# Altium integrated library Altium_WE-XTAL (rev25b).IntLib: 324 symbols (part 6 of 6)
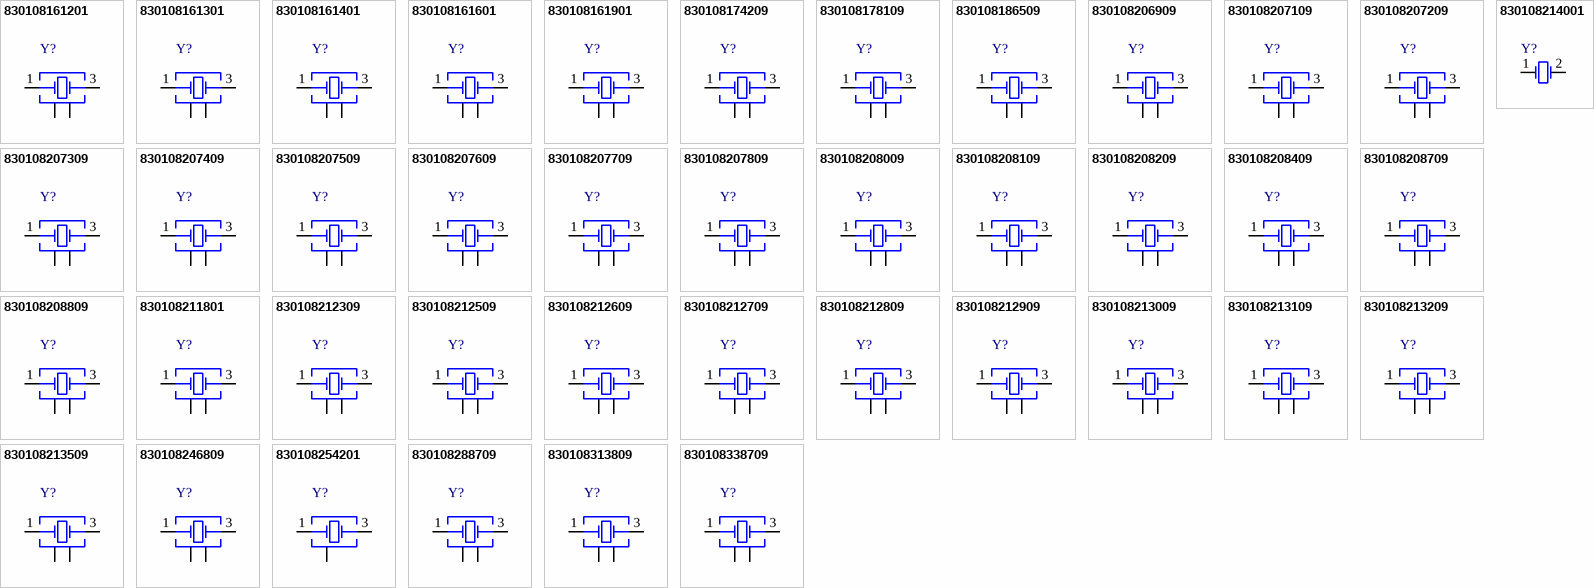
[diagram p13: symbols 830108161201 to 830108338709]

## 830108207609
designator Y?, comment 32MHz  (value not drawn)
WE-XTAL Quartz Crystal, CFPX-180, 32MHz, +/-10ppm; Manufacturer Part Number: 830108207609; Manufacturer: Wurth Elektronik; Frequency Stability: 20ppm; Load Capacitance: 8pF; Category: Crystals; Match Code: WE-XTAL; ComponentLink1Description: Website Link; ComponentLink1URL: https://www.we-online.com/redexpert/article/830108207609?ad; ComponentLink2Description: Datasheet Link; ComponentLink2URL: https://www.we-online.com/redexpert/spec/830108207609?ad; Mount: Surface Mount; Min Operating Temperature: -40°C; Max Operating Temperature: 85°C; Packaging: Tape and Reel; Case/Size Code: CFPX-180; Length: 3.2mm; Width: 2.5mm; Height: 0.8mm; Application: Processor, Bluetooth; Frequency: 32MHz; Frequency Tolerance: +/-10ppm
footprint WE-XTAL_CFPX-180
pins: 1 Crystal, 2 GND&Lid, 3 Crystal, 4 GND&Lid

## 830108207709
designator Y?, comment 40MHz  (value not drawn)
WE-XTAL Quartz Crystal, CFPX-180, 40MHz, +/-10ppm; Manufacturer Part Number: 830108207709; Manufacturer: Wurth Elektronik; Frequency Stability: 20ppm; Load Capacitance: 8pF; Category: Crystals; Match Code: WE-XTAL; ComponentLink1Description: Website Link; ComponentLink1URL: https://www.we-online.com/redexpert/article/830108207709?ad; ComponentLink2Description: Datasheet Link; ComponentLink2URL: https://www.we-online.com/redexpert/spec/830108207709?ad; Mount: Surface Mount; Min Operating Temperature: -40°C; Max Operating Temperature: 85°C; Packaging: Tape and Reel; Case/Size Code: CFPX-180; Length: 3.2mm; Width: 2.5mm; Height: 0.8mm; Application: Processor, USB, 3G/4G/5G, CAN, Wi-Fi; Frequency: 40MHz; Frequency Tolerance: +/-10ppm
footprint WE-XTAL_CFPX-180
pins: 1 Crystal, 2 GND&Lid, 3 Crystal, 4 GND&Lid

## 830108207809
designator Y?, comment 50MHz  (value not drawn)
WE-XTAL Quartz Crystal, CFPX-180, 50MHz, +/-10ppm; Manufacturer Part Number: 830108207809; Manufacturer: Wurth Elektronik; Frequency Stability: 20ppm; Load Capacitance: 8pF; Category: Crystals; Match Code: WE-XTAL; ComponentLink1Description: Website Link; ComponentLink1URL: https://www.we-online.com/redexpert/article/830108207809?ad; ComponentLink2Description: Datasheet Link; ComponentLink2URL: https://www.we-online.com/redexpert/spec/830108207809?ad; Mount: Surface Mount; Min Operating Temperature: -40°C; Max Operating Temperature: 85°C; Packaging: Tape and Reel; Case/Size Code: CFPX-180; Length: 3.2mm; Width: 2.5mm; Height: 0.8mm; Application: Processor, Ethernet, PCI Express, PHY; Frequency: 50MHz; Frequency Tolerance: +/-10ppm
footprint WE-XTAL_CFPX-180
pins: 1 Crystal, 2 GND&Lid, 3 Crystal, 4 GND&Lid

## 830108208009
designator Y?, comment 19.2MHz  (value not drawn)
WE-XTAL Quartz Crystal, CFPX-218, 19.2MHz, +/-10ppm; Manufacturer Part Number: 830108208009; Manufacturer: Wurth Elektronik; Frequency Stability: 10ppm; Load Capacitance: 10pF; Category: Crystals; Match Code: WE-XTAL; ComponentLink1Description: Website Link; ComponentLink1URL: https://www.we-online.com/redexpert/article/830108208009?ad; ComponentLink2Description: Datasheet Link; ComponentLink2URL: https://www.we-online.com/redexpert/spec/830108208009?ad; Mount: Surface Mount; Min Operating Temperature: -20°C; Max Operating Temperature: 70°C; Packaging: Tape and Reel; Case/Size Code: CFPX-218; Length: 2.5mm; Width: 2mm; Height: 0.65mm; Application: UART, 3G/4G/5G, Small Cell; Frequency: 19.2MHz; Frequency Tolerance: +/-10ppm
footprint WE-XTAL_CFPX-218
pins: 1 Crystal, 2 GND, 3 Crystal, 4 GND

## 830108208109
designator Y?, comment 20MHz  (value not drawn)
WE-XTAL Quartz Crystal, CFPX-218, 20MHz, +/-10ppm; Manufacturer Part Number: 830108208109; Manufacturer: Wurth Elektronik; Frequency Stability: 10ppm; Load Capacitance: 10pF; Category: Crystals; Match Code: WE-XTAL; ComponentLink1Description: Website Link; ComponentLink1URL: https://www.we-online.com/redexpert/article/830108208109?ad; ComponentLink2Description: Datasheet Link; ComponentLink2URL: https://www.we-online.com/redexpert/spec/830108208109?ad; Mount: Surface Mount; Min Operating Temperature: -20°C; Max Operating Temperature: 70°C; Packaging: Tape and Reel; Case/Size Code: CFPX-218; Length: 2.5mm; Width: 2mm; Height: 0.65mm; Application: Processor, CAN, USB, Ethernet, Wi-Fi; Frequency: 20MHz; Frequency Tolerance: +/-10ppm
footprint WE-XTAL_CFPX-218
pins: 1 Crystal, 2 GND, 3 Crystal, 4 GND

## 830108208209
designator Y?, comment 24MHz  (value not drawn)
WE-XTAL Quartz Crystal, CFPX-218, 24MHz, +/-10ppm; Manufacturer Part Number: 830108208209; Manufacturer: Wurth Elektronik; Frequency Stability: 10ppm; Load Capacitance: 10pF; Category: Crystals; Match Code: WE-XTAL; ComponentLink1Description: Website Link; ComponentLink1URL: https://www.we-online.com/redexpert/article/830108208209?ad; ComponentLink2Description: Datasheet Link; ComponentLink2URL: https://www.we-online.com/redexpert/spec/830108208209?ad; Mount: Surface Mount; Min Operating Temperature: -20°C; Max Operating Temperature: 70°C; Packaging: Tape and Reel; Case/Size Code: CFPX-218; Length: 2.5mm; Width: 2mm; Height: 0.65mm; Application: Processor, USB, Bluetooth; Frequency: 24MHz; Frequency Tolerance: +/-10ppm
footprint WE-XTAL_CFPX-218
pins: 1 Crystal, 2 GND, 3 Crystal, 4 GND

## 830108208409
designator Y?, comment 27MHz  (value not drawn)
WE-XTAL Quartz Crystal, CFPX-218, 27MHz, +/-10ppm; Manufacturer Part Number: 830108208409; Manufacturer: Wurth Elektronik; Frequency Stability: 10ppm; Load Capacitance: 10pF; Category: Crystals; Match Code: WE-XTAL; ComponentLink1Description: Website Link; ComponentLink1URL: https://www.we-online.com/redexpert/article/830108208409?ad; ComponentLink2Description: Datasheet Link; ComponentLink2URL: https://www.we-online.com/redexpert/spec/830108208409?ad; Mount: Surface Mount; Min Operating Temperature: -20°C; Max Operating Temperature: 70°C; Packaging: Tape and Reel; Case/Size Code: CFPX-218; Length: 2.5mm; Width: 2mm; Height: 0.65mm; Application: Processor; Frequency: 27MHz; Frequency Tolerance: +/-10ppm
footprint WE-XTAL_CFPX-218
pins: 1 Crystal, 2 GND, 3 Crystal, 4 GND

## 830108208709
designator Y?, comment 40MHz  (value not drawn)
WE-XTAL Quartz Crystal, CFPX-218, 40MHz, +/-10ppm; Manufacturer Part Number: 830108208709; Manufacturer: Wurth Elektronik; Frequency Stability: 10ppm; Load Capacitance: 10pF; Category: Crystals; Match Code: WE-XTAL; ComponentLink1Description: Website Link; ComponentLink1URL: https://www.we-online.com/redexpert/article/830108208709?ad; ComponentLink2Description: Datasheet Link; ComponentLink2URL: https://www.we-online.com/redexpert/spec/830108208709?ad; Mount: Surface Mount; Min Operating Temperature: -20°C; Max Operating Temperature: 70°C; Packaging: Tape and Reel; Case/Size Code: CFPX-218; Length: 2.5mm; Width: 2mm; Height: 0.65mm; Application: Processor, USB, 3G/4G/5G, CAN, Wi-Fi; Frequency: 40MHz; Frequency Tolerance: +/-10ppm
footprint WE-XTAL_CFPX-218
pins: 1 Crystal, 2 GND, 3 Crystal, 4 GND

## 830108208809
designator Y?, comment 50MHz  (value not drawn)
WE-XTAL Quartz Crystal, CFPX-218, 50MHz, +/-10ppm; Manufacturer Part Number: 830108208809; Manufacturer: Wurth Elektronik; Frequency Stability: 10ppm; Load Capacitance: 10pF; Category: Crystals; Match Code: WE-XTAL; ComponentLink1Description: Website Link; ComponentLink1URL: https://www.we-online.com/redexpert/article/830108208809?ad; ComponentLink2Description: Datasheet Link; ComponentLink2URL: https://www.we-online.com/redexpert/spec/830108208809?ad; Mount: Surface Mount; Min Operating Temperature: -20°C; Max Operating Temperature: 70°C; Packaging: Tape and Reel; Case/Size Code: CFPX-218; Length: 2.5mm; Width: 2mm; Height: 0.65mm; Application: Processor, Ethernet, PCI Express, PHY; Frequency: 50MHz; Frequency Tolerance: +/-10ppm
footprint WE-XTAL_CFPX-218
pins: 1 Crystal, 2 GND, 3 Crystal, 4 GND

## 830108211801
designator Y?, comment 32.768kHz  (value not drawn)
WE-XTAL Watch Crystal, IQXC-146, 32.768kHz, +/-20ppm; Manufacturer Part Number: 830108211801; Manufacturer: Wurth Elektronik; Load Capacitance: 7pF; Category: Crystals; Match Code: WE-XTAL; ComponentLink1Description: Website Link; ComponentLink1URL: https://www.we-online.com/redexpert/article/830108211801?ad; ComponentLink2Description: Datasheet Link; ComponentLink2URL: https://www.we-online.com/redexpert/spec/830108211801?ad; Mount: Surface Mount; Min Operating Temperature: -40°C; Max Operating Temperature: 85°C; Packaging: Tape and Reel; Case/Size Code: IQXC-146; Length: 1.2mm; Width: 1mm; Height: 0.5mm; Application: Real Time Clock; Frequency: 32.768kHz; Frequency Tolerance: +/-20ppm
footprint WE-XTAL_IQXC-146
pins: 1 Crystal, 2 GND, 3 Crystal, 4 GND

## 830108212309
designator Y?, comment 24MHz  (value not drawn)
WE-XTAL Quartz Crystal, IQXC-42, 24MHz, +/-10ppm; Manufacturer Part Number: 830108212309; Manufacturer: Wurth Elektronik; Frequency Stability: 15ppm; Load Capacitance: 8pF; Category: Crystals; Match Code: WE-XTAL; ComponentLink1Description: Website Link; ComponentLink1URL: https://www.we-online.com/redexpert/article/830108212309?ad; ComponentLink2Description: Datasheet Link; ComponentLink2URL: https://www.we-online.com/redexpert/spec/830108212309?ad; Mount: Surface Mount; Min Operating Temperature: -40°C; Max Operating Temperature: 85°C; Packaging: Tape and Reel; Case/Size Code: IQXC-42; Length: 2mm; Width: 1.6mm; Height: 0.5mm; Application: Processor, USB, Bluetooth; Frequency: 24MHz; Frequency Tolerance: +/-10ppm
footprint WE-XTAL_IQXC-42
pins: 1 Crystal, 2 GND & Lid, 3 Crystal, 4 GND & Lid

## 830108212509
designator Y?, comment 25MHz  (value not drawn)
WE-XTAL Quartz Crystal, IQXC-42, 25MHz, +/-10ppm; Manufacturer Part Number: 830108212509; Manufacturer: Wurth Elektronik; Frequency Stability: 15ppm; Load Capacitance: 8pF; Category: Crystals; Match Code: WE-XTAL; ComponentLink1Description: Website Link; ComponentLink1URL: https://www.we-online.com/redexpert/article/830108212509?ad; ComponentLink2Description: Datasheet Link; ComponentLink2URL: https://www.we-online.com/redexpert/spec/830108212509?ad; Mount: Surface Mount; Min Operating Temperature: -40°C; Max Operating Temperature: 85°C; Packaging: Tape and Reel; Case/Size Code: IQXC-42; Length: 2mm; Width: 1.6mm; Height: 0.5mm; Application: Processor, USB, 3G/4G/5G, Ethernet, Small Cell, PHY, PCI Express; Frequency: 25MHz; Frequency Tolerance: +/-10ppm
footprint WE-XTAL_IQXC-42
pins: 1 Crystal, 2 GND & Lid, 3 Crystal, 4 GND & Lid

## 830108212609
designator Y?, comment 26MHz  (value not drawn)
WE-XTAL Quartz Crystal, IQXC-42, 26MHz, +/-10ppm; Manufacturer Part Number: 830108212609; Manufacturer: Wurth Elektronik; Frequency Stability: 15ppm; Load Capacitance: 8pF; Category: Crystals; Match Code: WE-XTAL; ComponentLink1Description: Website Link; ComponentLink1URL: https://www.we-online.com/redexpert/article/830108212609?ad; ComponentLink2Description: Datasheet Link; ComponentLink2URL: https://www.we-online.com/redexpert/spec/830108212609?ad; Mount: Surface Mount; Min Operating Temperature: -40°C; Max Operating Temperature: 85°C; Packaging: Tape and Reel; Case/Size Code: IQXC-42; Length: 2mm; Width: 1.6mm; Height: 0.5mm; Application: CAN, Bluetooth, GPS, Small Cell; Frequency: 26MHz; Frequency Tolerance: +/-10ppm
footprint WE-XTAL_IQXC-42
pins: 1 Crystal, 2 GND & Lid, 3 Crystal, 4 GND & Lid

## 830108212709
designator Y?, comment 27.12MHz  (value not drawn)
WE-XTAL Quartz Crystal, IQXC-42, 27.12MHz, +/-10ppm; Manufacturer Part Number: 830108212709; Manufacturer: Wurth Elektronik; Frequency Stability: 15ppm; Load Capacitance: 8pF; Category: Crystals; Match Code: WE-XTAL; ComponentLink1Description: Website Link; ComponentLink1URL: https://www.we-online.com/redexpert/article/830108212709?ad; ComponentLink2Description: Datasheet Link; ComponentLink2URL: https://www.we-online.com/redexpert/spec/830108212709?ad; Mount: Surface Mount; Min Operating Temperature: -40°C; Max Operating Temperature: 85°C; Packaging: Tape and Reel; Case/Size Code: IQXC-42; Length: 2mm; Width: 1.6mm; Height: 0.5mm; Application: NFC, RFID; Frequency: 27.12MHz; Frequency Tolerance: +/-10ppm
footprint WE-XTAL_IQXC-42
pins: 1 Crystal, 2 GND & Lid, 3 Crystal, 4 GND & Lid

## 830108212809
designator Y?, comment 30MHz  (value not drawn)
WE-XTAL Quartz Crystal, IQXC-42, 30MHz, +/-10ppm; Manufacturer Part Number: 830108212809; Manufacturer: Wurth Elektronik; Frequency Stability: 15ppm; Load Capacitance: 8pF; Category: Crystals; Match Code: WE-XTAL; ComponentLink1Description: Website Link; ComponentLink1URL: https://www.we-online.com/redexpert/article/830108212809?ad; ComponentLink2Description: Datasheet Link; ComponentLink2URL: https://www.we-online.com/redexpert/spec/830108212809?ad; Mount: Surface Mount; Min Operating Temperature: -40°C; Max Operating Temperature: 85°C; Packaging: Tape and Reel; Case/Size Code: IQXC-42; Length: 2mm; Width: 1.6mm; Height: 0.5mm; Application: Processor, USB; Frequency: 30MHz; Frequency Tolerance: +/-10ppm
footprint WE-XTAL_IQXC-42
pins: 1 Crystal, 2 GND & Lid, 3 Crystal, 4 GND & Lid

## 830108212909
designator Y?, comment 32MHz  (value not drawn)
WE-XTAL Quartz Crystal, IQXC-42, 32MHz, +/-10ppm; Manufacturer Part Number: 830108212909; Manufacturer: Wurth Elektronik; Frequency Stability: 15ppm; Load Capacitance: 8pF; Category: Crystals; Match Code: WE-XTAL; ComponentLink1Description: Website Link; ComponentLink1URL: https://www.we-online.com/redexpert/article/830108212909?ad; ComponentLink2Description: Datasheet Link; ComponentLink2URL: https://www.we-online.com/redexpert/spec/830108212909?ad; Mount: Surface Mount; Min Operating Temperature: -40°C; Max Operating Temperature: 85°C; Packaging: Tape and Reel; Case/Size Code: IQXC-42; Length: 2mm; Width: 1.6mm; Height: 0.5mm; Application: Processor, Bluetooth; Frequency: 32MHz; Frequency Tolerance: +/-10ppm
footprint WE-XTAL_IQXC-42
pins: 1 Crystal, 2 GND & Lid, 3 Crystal, 4 GND & Lid

## 830108213009
designator Y?, comment 37.4MHz  (value not drawn)
WE-XTAL Quartz Crystal, IQXC-42, 37.4MHz, +/-10ppm; Manufacturer Part Number: 830108213009; Manufacturer: Wurth Elektronik; Frequency Stability: 15ppm; Load Capacitance: 8pF; Category: Crystals; Match Code: WE-XTAL; ComponentLink1Description: Website Link; ComponentLink1URL: https://www.we-online.com/redexpert/article/830108213009?ad; ComponentLink2Description: Datasheet Link; ComponentLink2URL: https://www.we-online.com/redexpert/spec/830108213009?ad; Mount: Surface Mount; Min Operating Temperature: -40°C; Max Operating Temperature: 85°C; Packaging: Tape and Reel; Case/Size Code: IQXC-42; Length: 2mm; Width: 1.6mm; Height: 0.5mm; Application: Wi-Fi; Frequency: 37.4MHz; Frequency Tolerance: +/-10ppm
footprint WE-XTAL_IQXC-42
pins: 1 Crystal, 2 GND & Lid, 3 Crystal, 4 GND & Lid

## 830108213109
designator Y?, comment 38.4MHz  (value not drawn)
WE-XTAL Quartz Crystal, IQXC-42, 38.4MHz, +/-10ppm; Manufacturer Part Number: 830108213109; Manufacturer: Wurth Elektronik; Frequency Stability: 15ppm; Load Capacitance: 8pF; Category: Crystals; Match Code: WE-XTAL; ComponentLink1Description: Website Link; ComponentLink1URL: https://www.we-online.com/redexpert/article/830108213109?ad; ComponentLink2Description: Datasheet Link; ComponentLink2URL: https://www.we-online.com/redexpert/spec/830108213109?ad; Mount: Surface Mount; Min Operating Temperature: -40°C; Max Operating Temperature: 85°C; Packaging: Tape and Reel; Case/Size Code: IQXC-42; Length: 2mm; Width: 1.6mm; Height: 0.5mm; Application: 3G/4G/5G, Audio, Small Cell, UART; Frequency: 38.4MHz; Frequency Tolerance: +/-10ppm
footprint WE-XTAL_IQXC-42
pins: 1 Crystal, 2 GND & Lid, 3 Crystal, 4 GND & Lid

## 830108213209
designator Y?, comment 40MHz  (value not drawn)
WE-XTAL Quartz Crystal, IQXC-42, 40MHz, +/-10ppm; Manufacturer Part Number: 830108213209; Manufacturer: Wurth Elektronik; Frequency Stability: 15ppm; Load Capacitance: 8pF; Category: Crystals; Match Code: WE-XTAL; ComponentLink1Description: Website Link; ComponentLink1URL: https://www.we-online.com/redexpert/article/830108213209?ad; ComponentLink2Description: Datasheet Link; ComponentLink2URL: https://www.we-online.com/redexpert/spec/830108213209?ad; Mount: Surface Mount; Min Operating Temperature: -40°C; Max Operating Temperature: 85°C; Packaging: Tape and Reel; Case/Size Code: IQXC-42; Length: 2mm; Width: 1.6mm; Height: 0.5mm; Application: Processor, USB, 3G/4G/5G, CAN, Wi-Fi; Frequency: 40MHz; Frequency Tolerance: +/-10ppm
footprint WE-XTAL_IQXC-42
pins: 1 Crystal, 2 GND & Lid, 3 Crystal, 4 GND & Lid

## 830108213509
designator Y?, comment 48MHz  (value not drawn)
WE-XTAL Quartz Crystal, IQXC-42, 48MHz, +/-10ppm; Manufacturer Part Number: 830108213509; Manufacturer: Wurth Elektronik; Frequency Stability: 15ppm; Load Capacitance: 8pF; Category: Crystals; Match Code: WE-XTAL; ComponentLink1Description: Website Link; ComponentLink1URL: https://www.we-online.com/redexpert/article/830108213509?ad; ComponentLink2Description: Datasheet Link; ComponentLink2URL: https://www.we-online.com/redexpert/spec/830108213509?ad; Mount: Surface Mount; Min Operating Temperature: -40°C; Max Operating Temperature: 85°C; Packaging: Tape and Reel; Case/Size Code: IQXC-42; Length: 2mm; Width: 1.6mm; Height: 0.5mm; Application: Processor, USB, Wi-Fi; Frequency: 48MHz; Frequency Tolerance: +/-10ppm
footprint WE-XTAL_IQXC-42
pins: 1 Crystal, 2 GND & Lid, 3 Crystal, 4 GND & Lid

## 830108214001
designator Y?, comment 32.768kHz  (value not drawn)
WE-XTAL Watch Crystal, IQXC-90, 32.768kHz, +/-20ppm; Manufacturer Part Number: 830108214001; Manufacturer: Wurth Elektronik; Load Capacitance: 4pF; Category: Crystals; Match Code: WE-XTAL; ComponentLink1Description: Website Link; ComponentLink1URL: https://www.we-online.com/redexpert/article/830108214001?ad; ComponentLink2Description: Datasheet Link; ComponentLink2URL: https://www.we-online.com/redexpert/spec/830108214001?ad; Mount: Surface Mount; Min Operating Temperature: -40°C; Max Operating Temperature: 85°C; Packaging: Tape and Reel; Case/Size Code: IQXC-90; Length: 1.6mm; Width: 1mm; Height: 0.5mm; Application: Real Time Clock; Frequency: 32.768kHz; Frequency Tolerance: +/-20ppm
footprint WE-XTAL_IQXC-90
pins: 1 OSC1, 2 OSC2

## 830108246809
designator Y?, comment 38.4MHz  (value not drawn)
WE-XTAL Quartz Crystal, IQXC-42, 38.4MHz, +/-10ppm; Manufacturer Part Number: 830108246809; Manufacturer: Wurth Elektronik; Frequency Stability: 15ppm; Load Capacitance: 10pF; Category: Crystals; Match Code: WE-XTAL; ComponentLink1Description: Website Link; ComponentLink1URL: https://www.we-online.com/redexpert/article/830108246809?ad; ComponentLink2Description: Datasheet Link; ComponentLink2URL: https://www.we-online.com/redexpert/spec/830108246809?ad; Mount: Surface Mount; Min Operating Temperature: -40°C; Max Operating Temperature: 85°C; Packaging: Tape and Reel; Case/Size Code: IQXC-42; Length: 2mm; Width: 1.6mm; Height: 0.5mm; Application: 3G/4G/5G, Audio, Small Cell, UART; Frequency: 38.4MHz; Frequency Tolerance: +/-10ppm
footprint WE-XTAL_IQXC-42
pins: 1 Crystal, 2 GND & Lid, 3 Crystal, 4 GND & Lid

## 830108254201
designator Y?, comment 32MHz  (value not drawn)
WE-XTAL Quartz Crystal, IQXC-240, 32MHz, +/-7ppm; Manufacturer Part Number: 830108254201; Manufacturer: Wurth Elektronik; Frequency Stability: 15ppm; Load Capacitance: 5pF; Category: Crystals; Match Code: WE-XTAL; ComponentLink1Description: Website Link; ComponentLink1URL: https://www.we-online.com/redexpert/article/830108254201?ad; ComponentLink2Description: Datasheet Link; ComponentLink2URL: https://www.we-online.com/redexpert/spec/830108254201?ad; Mount: Surface Mount; Min Operating Temperature: -30°C; Max Operating Temperature: 85°C; Packaging: Tape and Reel; Case/Size Code: IQXC-240; Length: 1.2mm; Width: 1mm; Height: 0.33mm; Application: Processor, Bluetooth; Frequency: 32MHz; Frequency Tolerance: +/-7ppm
footprint WE-XTAL_IQXC-240
pins: 1 Crystal, 2 GND, 3 Crystal

## 830108288709
designator Y?, comment 16MHz  (value not drawn)
WE-XTAL Quartz Crystal, IQXC-42, 16MHz, +/-10ppm; Manufacturer Part Number: 830108288709; Manufacturer: Wurth Elektronik; Frequency Stability: 30ppm; Load Capacitance: 10pF; Category: Crystals; Match Code: WE-XTAL; ComponentLink1Description: Website Link; ComponentLink1URL: https://www.we-online.com/redexpert/article/830108288709?ad; ComponentLink2Description: Datasheet Link; ComponentLink2URL: https://www.we-online.com/redexpert/spec/830108288709?ad; Mount: Surface Mount; Min Operating Temperature: -40°C; Max Operating Temperature: 105°C; Packaging: Tape and Reel; Case/Size Code: IQXC-42; Length: 2mm; Width: 1.6mm; Height: 0.5mm; Application: Processor, CAN, Bluetooth; Frequency: 16MHz; Frequency Tolerance: +/-10ppm
footprint WE-XTAL_IQXC-42
pins: 1 Crystal, 2 GND & Lid, 3 Crystal, 4 GND & Lid

## 830108313809
designator Y?, comment 8MHz  (value not drawn)
WE-XTAL Quartz Crystal, CFPX-180, 8MHz, +/-30ppm; Manufacturer Part Number: 830108313809; Manufacturer: Wurth Elektronik; Frequency Stability: 50ppm; Load Capacitance: 12pF; Category: Crystals; Match Code: WE-XTAL; ComponentLink1Description: Website Link; ComponentLink1URL: https://www.we-online.com/redexpert/article/830108313809?ad; ComponentLink2Description: Datasheet Link; ComponentLink2URL: https://www.we-online.com/redexpert/spec/830108313809?ad; Mount: Surface Mount; Min Operating Temperature: -40°C; Max Operating Temperature: 85°C; Packaging: Tape and Reel; Case/Size Code: CFPX-180; Length: 3.2mm; Width: 2.5mm; Height: 0.8mm; Application: Processor, UART; Frequency: 8MHz; Frequency Tolerance: +/-30ppm
footprint WE-XTAL_CFPX-180
pins: 1 Crystal, 2 GND&Lid, 3 Crystal, 4 GND&Lid

## 830108338709
designator Y?, comment 10MHz  (value not drawn)
WE-XTAL Quartz Crystal, CFPX-180, 10MHz, +/-20ppm; Manufacturer Part Number: 830108338709; Manufacturer: Wurth Elektronik; Frequency Stability: 50ppm; Load Capacitance: 12pF; Category: Crystals; Match Code: WE-XTAL; ComponentLink1Description: Website Link; ComponentLink1URL: https://www.we-online.com/redexpert/article/830108338709?ad; ComponentLink2Description: Datasheet Link; ComponentLink2URL: https://www.we-online.com/redexpert/spec/830108338709?ad; Mount: Surface Mount; Min Operating Temperature: -40°C; Max Operating Temperature: 105°C; Packaging: Tape and Reel; Case/Size Code: CFPX-180; Length: 3.2mm; Width: 2.5mm; Height: 0.8mm; Application: Processor, Ethernet; Frequency: 10MHz; Frequency Tolerance: +/-20ppm
footprint WE-XTAL_CFPX-180
pins: 1 Crystal, 2 GND&Lid, 3 Crystal, 4 GND&Lid

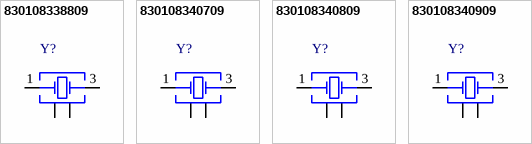
[diagram p8: symbols 830108338809 to 830108340909]

## 830108338809
designator Y?, comment 12MHz  (value not drawn)
WE-XTAL Quartz Crystal, CFPX-180, 12MHz, +/-20ppm; Manufacturer Part Number: 830108338809; Manufacturer: Wurth Elektronik; Frequency Stability: 30ppm; Load Capacitance: 12pF; Category: Crystals; Match Code: WE-XTAL; ComponentLink1Description: Website Link; ComponentLink1URL: https://www.we-online.com/redexpert/article/830108338809?ad; ComponentLink2Description: Datasheet Link; ComponentLink2URL: https://www.we-online.com/redexpert/spec/830108338809?ad; Mount: Surface Mount; Min Operating Temperature: -40°C; Max Operating Temperature: 105°C; Packaging: Tape and Reel; Case/Size Code: CFPX-180; Length: 3.2mm; Width: 2.5mm; Height: 0.8mm; Application: Processor, USB, CAN; Frequency: 12MHz; Frequency Tolerance: +/-20ppm
footprint WE-XTAL_CFPX-180
pins: 1 Crystal, 2 GND&Lid, 3 Crystal, 4 GND&Lid

## 830108340709
designator Y?, comment 24MHz  (value not drawn)
WE-XTAL Quartz Crystal, CFPX-180, 24MHz, +/-20ppm; Manufacturer Part Number: 830108340709; Manufacturer: Wurth Elektronik; Frequency Stability: 50ppm; Load Capacitance: 12pF; Category: Crystals; Match Code: WE-XTAL; ComponentLink1Description: Website Link; ComponentLink1URL: https://www.we-online.com/redexpert/article/830108340709?ad; ComponentLink2Description: Datasheet Link; ComponentLink2URL: https://www.we-online.com/redexpert/spec/830108340709?ad; Mount: Surface Mount; Min Operating Temperature: -40°C; Max Operating Temperature: 105°C; Packaging: Tape and Reel; Case/Size Code: CFPX-180; Length: 3.2mm; Width: 2.5mm; Height: 0.8mm; Application: Processor, USB, Bluetooth; Frequency: 24MHz; Frequency Tolerance: +/-20ppm
footprint WE-XTAL_CFPX-180
pins: 1 Crystal, 2 GND&Lid, 3 Crystal, 4 GND&Lid

## 830108340809
designator Y?, comment 25MHz  (value not drawn)
WE-XTAL Quartz Crystal, CFPX-180, 25MHz, +/-20ppm; Manufacturer Part Number: 830108340809; Manufacturer: Wurth Elektronik; Frequency Stability: 30ppm; Load Capacitance: 12pF; Category: Crystals; Match Code: WE-XTAL; ComponentLink1Description: Website Link; ComponentLink1URL: https://www.we-online.com/redexpert/article/830108340809?ad; ComponentLink2Description: Datasheet Link; ComponentLink2URL: https://www.we-online.com/redexpert/spec/830108340809?ad; Mount: Surface Mount; Min Operating Temperature: -40°C; Max Operating Temperature: 105°C; Packaging: Tape and Reel; Case/Size Code: CFPX-180; Length: 3.2mm; Width: 2.5mm; Height: 0.8mm; Application: Processor, USB, 3G/4G/5G, Ethernet, Small Cell, PHY, PCI Express; Frequency: 25MHz; Frequency Tolerance: +/-20ppm
footprint WE-XTAL_CFPX-180
pins: 1 Crystal, 2 GND&Lid, 3 Crystal, 4 GND&Lid

## 830108340909
designator Y?, comment 26MHz  (value not drawn)
WE-XTAL Quartz Crystal, CFPX-180, 26MHz, +/-10ppm; Manufacturer Part Number: 830108340909; Manufacturer: Wurth Elektronik; Frequency Stability: 20ppm; Load Capacitance: 12pF; Category: Crystals; Match Code: WE-XTAL; ComponentLink1Description: Website Link; ComponentLink1URL: https://www.we-online.com/redexpert/article/830108340909?ad; ComponentLink2Description: Datasheet Link; ComponentLink2URL: https://www.we-online.com/redexpert/spec/830108340909?ad; Mount: Surface Mount; Min Operating Temperature: -40°C; Max Operating Temperature: 105°C; Packaging: Tape and Reel; Case/Size Code: CFPX-180; Length: 3.2mm; Width: 2.5mm; Height: 0.8mm; Application: CAN, Bluetooth, GPS, Small Cell; Frequency: 26MHz; Frequency Tolerance: +/-10ppm
footprint WE-XTAL_CFPX-180
pins: 1 Crystal, 2 GND&Lid, 3 Crystal, 4 GND&Lid